# EAGLE library part DSPIC33FJ128MC802 (library @Club_Microcontroleurs)
Microchip dsPIC33FJ128MC802 controller Device with CAN, QEIx2, MCPWM, ADC & DAC.
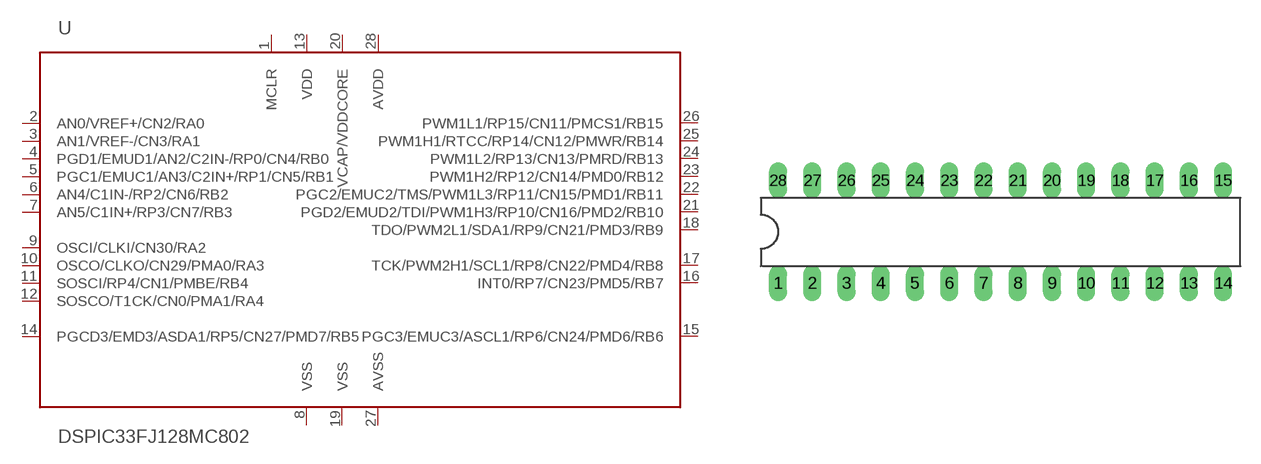
[diagram p1: symbol with the pads of DIL28-3; footprint DIL28-3]

Designator prefix -

## DSPIC33FJ128MC802  [DIL28-3]
1  MCLR  in
2  AN0/VREF+/CN2/RA0
3  AN1/VREF-/CN3/RA1
4  PGD1/EMUD1/AN2/C2IN-/RP0/CN4/RB0
5  PGC1/EMUC1/AN3/C2IN+/RP1/CN5/RB1
6  AN4/C1IN-/RP2/CN6/RB2
7  AN5/C1IN+/RP3/CN7/RB3
8  VSS  pwr
9  OSCI/CLKI/CN30/RA2
10  OSCO/CLKO/CN29/PMA0/RA3
11  SOSCI/RP4/CN1/PMBE/RB4
12  SOSCO/T1CK/CN0/PMA1/RA4  in
13  VDD  pwr
14  PGCD3/EMD3/ASDA1/RP5/CN27/PMD7/RB5
15  PGC3/EMUC3/ASCL1/RP6/CN24/PMD6/RB6
16  INT0/RP7/CN23/PMD5/RB7
17  TCK/PWM2H1/SCL1/RP8/CN22/PMD4/RB8
18  TDO/PWM2L1/SDA1/RP9/CN21/PMD3/RB9
19  VSS  pwr
20  VCAP/VDDCORE  pwr
21  PGD2/EMUD2/TDI/PWM1H3/RP10/CN16/PMD2/RB10
22  PGC2/EMUC2/TMS/PWM1L3/RP11/CN15/PMD1/RB11
23  PWM1H2/RP12/CN14/PMD0/RB12
24  PWM1L2/RP13/CN13/PMRD/RB13
25  PWM1H1/RTCC/RP14/CN12/PMWR/RB14
26  PWM1L1/RP15/CN11/PMCS1/RB15
27  AVSS  pwr
28  AVDD  pwr

## Footprint DIL28-3 (pad centres in mm)
Dual In Line package type P
drill 0.813 long: 1 -16.51,-3.81; 2 -13.97,-3.81; 3 -11.43,-3.81; 4 -8.89,-3.81; 5 -6.35,-3.81; 6 -3.81,-3.81; 7 -1.27,-3.81; 8 1.27,-3.81; 9 3.81,-3.81; 10 6.35,-3.81; 11 8.89,-3.81; 12 11.43,-3.81; 13 13.97,-3.81; 14 16.51,-3.81; 15 16.51,3.81; 16 13.97,3.81; 17 11.43,3.81; 18 8.89,3.81; 19 6.35,3.81; 20 3.81,3.81; 21 1.27,3.81; 22 -1.27,3.81; 23 -3.81,3.81; 24 -6.35,3.81; 25 -8.89,3.81; 26 -11.43,3.81; 27 -13.97,3.81; 28 -16.51,3.81